# Altium footprint library epf.PcbLib: 52 footprints (part 2 of 4)
Each footprint in its own frame and in the unit in brackets; x right, y up, seen from the top. Pads: shape width x height; smd on the part's side, far side on the other; paste and mask are expansions set on the pad; w line width, h text height; cw(c..) or ccw(c..) is an arc to the next point about the centre after c.
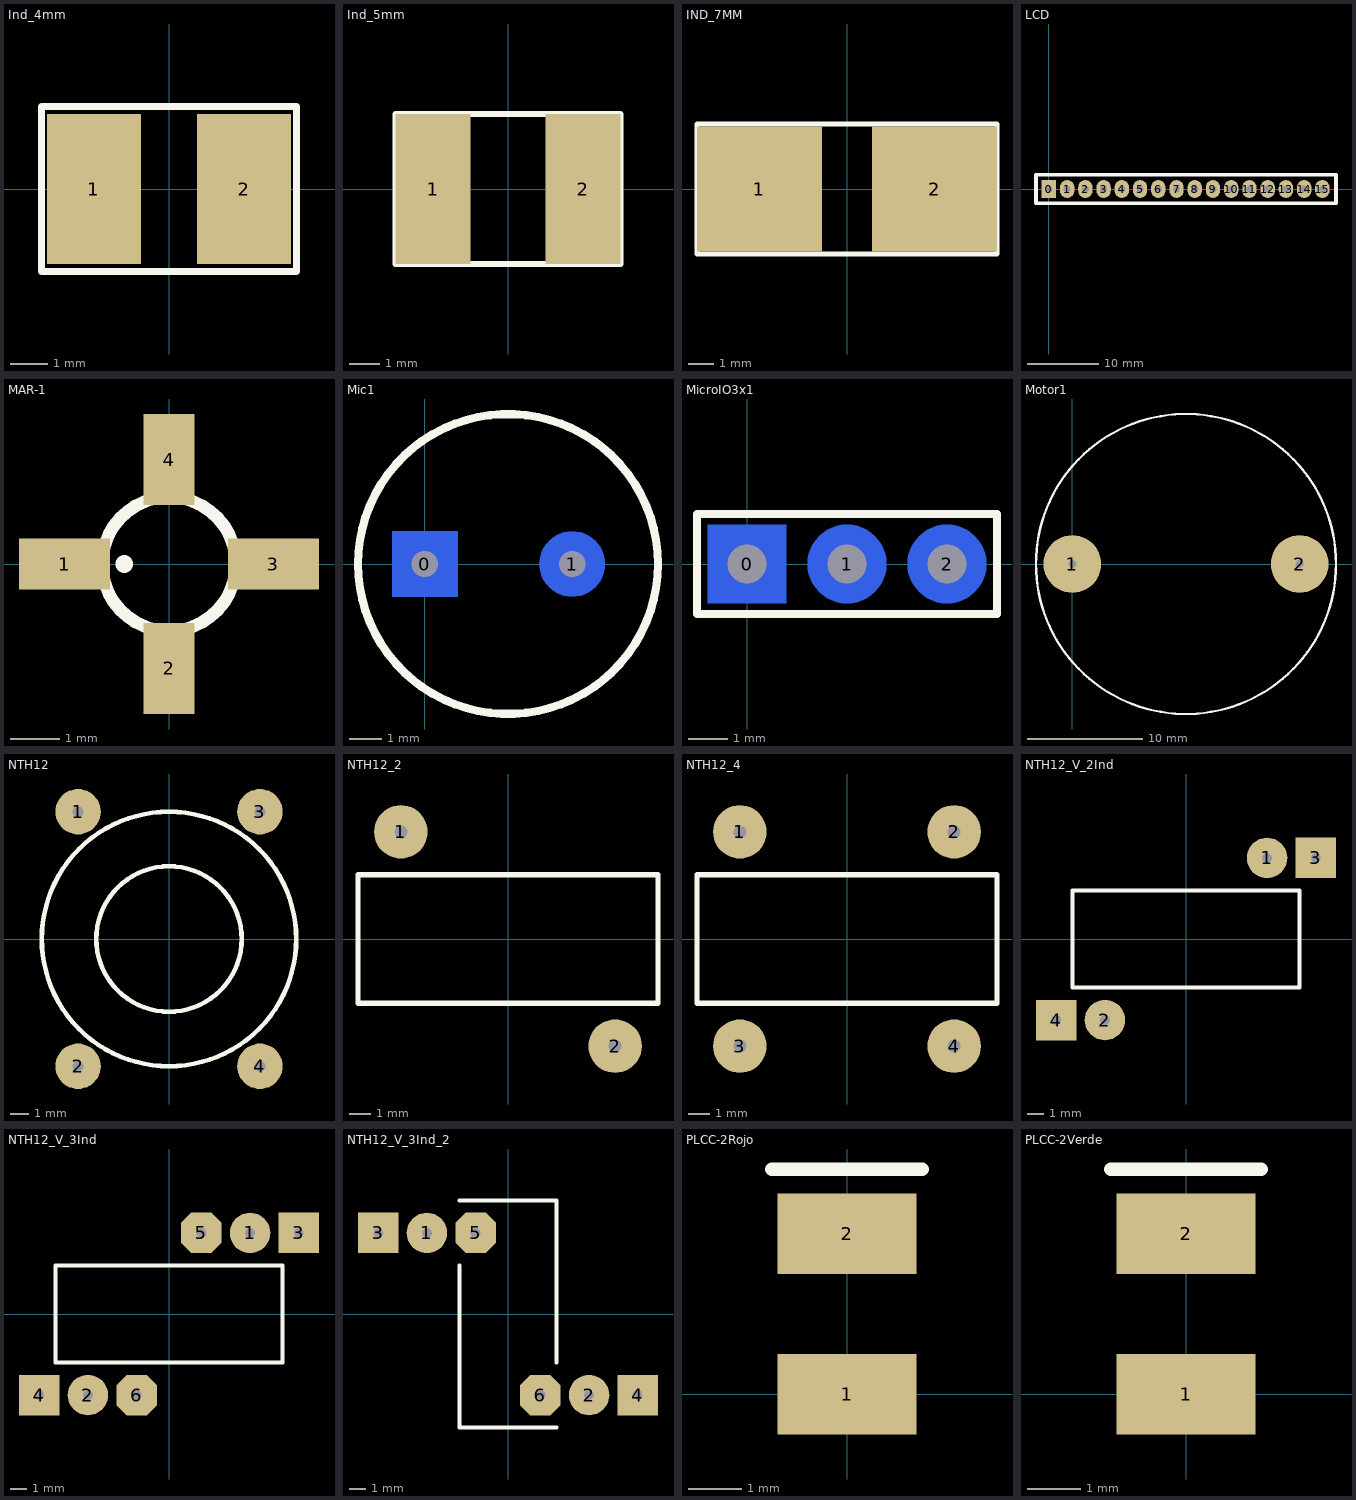
[diagram p1: the footprints below, top view; thin cyan lines are the x and y axes]

## Ind_4mm [mm]
pads (2):
  rect 2.5x4 smd: 1(-2,0) 2(2,0)
Top Overlay:
  lines w0.2: -3.4,-2.2 -3.4,0.35 -3.4,2.2 3.4,2.2 3.4,-2.2 -3.4,-2.2

## Ind_5mm [mm]
pads (2):
  rect 2.5x5 smd: 1(-2.5,0) 2(2.5,0)
Top Overlay:
  lines w0.2: -3.75,-2.5 -3.75,0 -3.75,2.5 3.75,2.5 3.75,-2.5 -3.75,-2.5

## IND_7MM [mm]
pads (2):
  rect 5x5 smd: 1(-3.5,0) 2(3.5,0)
Top Overlay:
  lines w0.2: -6,-2.6 -6,0 -6,1 -6,2.6 6,2.6 6,-2.6 -6,-2.6

## LCD [mm]
height 15
pads (16):
  rect 2x2.5 hole 1: 0(0,0)
  oval 2x2.5 hole 1: 1(2.54,0) 2(5.08,0) 3(7.62,0) 4(10.16,0) 5(12.7,0) 6(15.24,0) 7(17.78,0) 8(20.32,0) 9(22.86,0) 10(25.4,0) 11(27.94,0) 12(30.48,0) 13(33.02,0) 14(35.56,0) 15(38.1,0)
Top Overlay:
  lines w0.5: -1.8,-2 40,-2 40,2 -1.8,2 -1.8,-2
3D body: height 8.51, standoff -3.68, extent 19.05,-1.46 31.75,1.46
3D body: height 8.51, standoff -3.68, extent 31.75,-1.46 39.37,1.46
3D body: height 8.51, standoff -3.68, extent 11.43,-1.46 19.05,1.46
3D body: height 8.51, standoff -3.68, extent -1.27,-1.46 11.43,1.46
3D body: height 14.52, standoff 1.31, extent -8.05,-34.4 72.45,2.1

## MAR-1 [mm]
pads (4):
  rect 1.83x1.02 smd: 1(-2.1,0) 3(2.1,0)
  rect 1.02x1.83 smd: 2(0,-2.1) 4(0,2.1)
Top Overlay:
  circle w0.254: c-0.9,0 r0.05
  circle w0.254: c0,0 r1.346

## Mic1 [mm]
pads (2):
  rect 2x2 on Bottom hole 0.8: 0(0,0)
  round 2 on Bottom hole 0.8: 1(4.5,0)
Top Overlay:
  circle w0.254: c2.54,0 r4.579

## MicroIO3x1 [mm]
pads (3):
  rect 2x2 on Bottom hole 1: 0(0,0)
  round 2 on Bottom hole 1: 1(2.54,0) 2(5.08,0)
Top Overlay:
  lines w0.2: -1.27,-1.27 6.35,-1.27 6.35,1.27 -1.27,1.27 -1.27,0 -1.27,-1.27

## Motor1 [mm]
pads (2):
  round 5 hole 0.7: 1(0,0) 2(19.7,0)
Top Overlay:
  circle w0.2: c9.85,0 r13

## NTH12 [mm]
height 5.4
pads (4):
  round 2.5 hole 0.6: 1(-5,7) 2(-5,-7) 3(5,7) 4(5,-7)
Top Overlay:
  circle w0.254: c0,0 r4
  circle w0.254: c0,0 r7

## NTH12_2 [mm]
height 13
pads (2):
  round 2.5 hole 0.6: 1(-5,5) 2(5,-5)
Top Overlay:
  lines w0.254: -7,-3 7,-3 7,3 -7,3 -7,-3

## NTH12_4 [mm]
height 12
pads (4):
  round 2.5 hole 0.6: 1(-5,5) 2(5,5) 3(-5,-5) 4(5,-5)
Top Overlay:
  lines w0.254: -7,-3 -7,3 7,3 7,-3 -7,-3

## NTH12_V_2Ind [mm]
height 13
pads (4):
  round 2.5 hole 0.6: 1(5,5) 2(-5,-5)
  rect 2.5x2.5 hole 0.6: 3(8,5) 4(-8,-5)
Top Overlay:
  lines w0.254: -7,-3 -7,3 7,3 7,-3 -7,-3

## NTH12_V_3Ind [mm]
height 13
pads (6):
  round 2.5 hole 0.6: 1(5,5) 2(-5,-5)
  rect 2.5x2.5 hole 0.6: 3(8,5) 4(-8,-5)
  oct 2.5x2.5 hole 0.6: 5(2,5) 6(-2,-5)
Top Overlay:
  lines w0.254: -7,-3 -7,3 7,3 7,-3 -7,-3

## NTH12_V_3Ind_2 [mm]
height 13
pads (6):
  round 2.5 hole 0.6: 1(-5,5) 2(5,-5)
  rect 2.5x2.5 hole 0.6: 3(-8,5) 4(8,-5)
  oct 2.5x2.5 hole 0.6: 5(-2,5) 6(2,-5)
Top Overlay:
  lines w0.254: -3,3 -3,-7 3,-7 ; -3,7 3,7 3,-3

## PLCC-2Rojo [mm]
pads (2):
  rect 2.6x1.5 smd: 1(0,0) 2(0,3)
Top Overlay:
  lines w0.254: -1.4,4.2 1.4,4.2
3D body: height 1.75, standoff -0.06, extent -1.4,-0.25 1.4,3.25

## PLCC-2Verde [mm]
pads (2):
  rect 2.6x1.5 smd: 1(0,0) 2(0,3)
Top Overlay:
  lines w0.254: -1.4,4.2 1.4,4.2
3D body: height 2.05, standoff -0.05, extent -1.5,-0.35 1.5,3.35